# EAGLE library part SPEAKJET (library SparkFun-20100301)
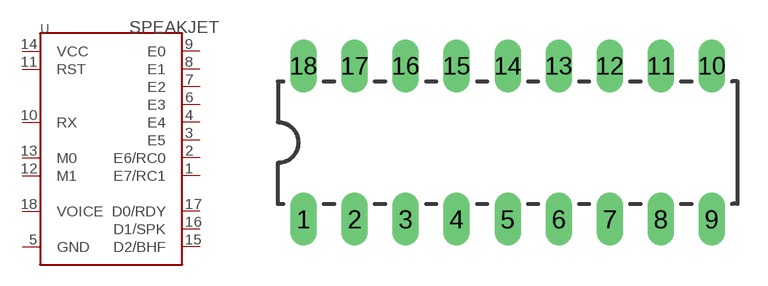
[diagram p277: symbol with the pads of DIL18; footprint DIL18]

Designator prefix U

## SPEAKJET  [DIL18]
1  E7/RC1
2  E6/RC0
3  E5
4  E4
5  GND
6  E3
7  E2
8  E1
9  E0
10  RX
11  RST
12  M1
13  M0
14  VCC
15  D2/BHF
16  D1/SPK
17  D0/RDY
18  VOICE

## Footprint DIL18 (pad centres in mm)
Dual In Line Package
drill 0.813 long: 1 -10.16,-3.81; 2 -7.62,-3.81; 3 -5.08,-3.81; 4 -2.54,-3.81; 5 0,-3.81; 6 2.54,-3.81; 7 5.08,-3.81; 8 7.62,-3.81; 9 10.16,-3.81; 10 10.16,3.81; 11 7.62,3.81; 12 5.08,3.81; 13 2.54,3.81; 14 0,3.81; 15 -2.54,3.81; 16 -5.08,3.81; 17 -7.62,3.81; 18 -10.16,3.81